# EAGLE library part W9812G6KH-5I (library sjg-pixl)
DRAM 128Mb SDR SDRAM x16, 200MHz, Ind temp Source: Datasheet <https://www.arrow.com/en/products/w9812g6kh-5i/winbond-electronics>
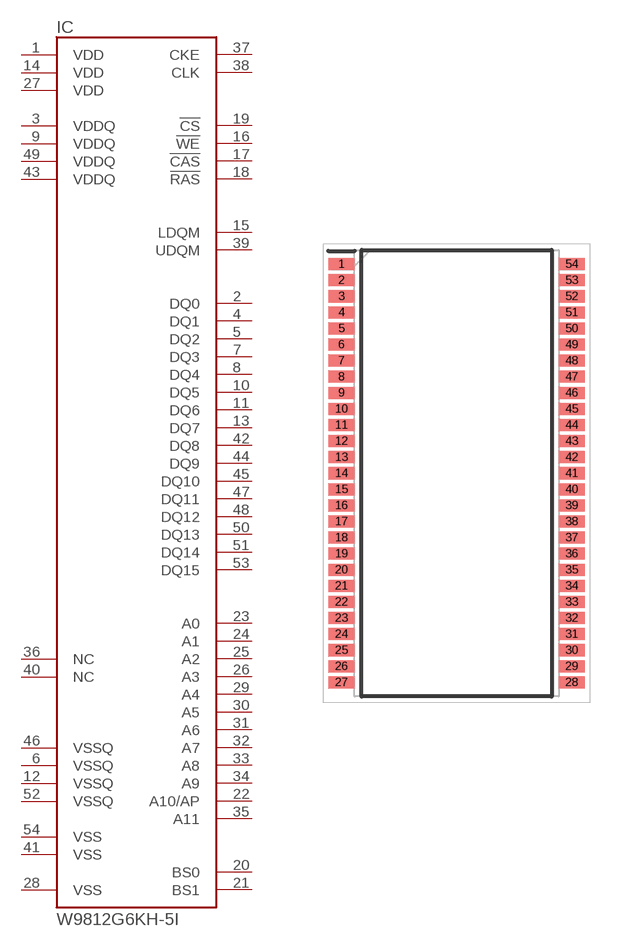
[diagram p18: symbol with the pads of SOP80P1176X120-54N; footprint SOP80P1176X120-54N]

Designator prefix IC

## W9812G6KH-5I (ARROW_PART_NUMBER: W9812G6KH-5I; ARROW_PRICE-STOCK: https://www.arrow.com/en/products/w9812g6kh-5i/winbond-electronics; DESCRIPTION: DRAM 128Mb SDR SDRAM x16, 200MHz, Ind temp; HEIGHT: 1.2mm; MANUFACTURER_NAME: Winbond; MANUFACTURER_PART_NUMBER: W9812G6KH-5I; MOUSER_PART_NUMBER: 454-W9812G6KH-5I; MOUSER_PRICE-STOCK: https://www.mouser.co.uk/ProductDetail/Winbond/W9812G6KH-5I?qs=qSfuJ%252Bfl%2Fd6msQf3E8e0Jg%3D%3D)  [SOP80P1176X120-54N]
1  VDD
2  DQ0
3  VDDQ
4  DQ1
5  DQ2
6  VSSQ
7  DQ3
8  DQ4
9  VDDQ
10  DQ5
11  DQ6
12  VSSQ
13  DQ7
14  VDD
15  LDQM
16  !WE
17  !CAS
18  !RAS
19  !CS
20  BS0
21  BS1
22  A10/AP
23  A0
24  A1
25  A2
26  A3
27  VDD
28  VSS
29  A4
30  A5
31  A6
32  A7
33  A8
34  A9
35  A11
36  NC  nc
37  CKE
38  CLK
39  UDQM
40  NC  nc
41  VSS
42  DQ8
43  VDDQ
44  DQ9
45  DQ10
46  VSSQ
47  DQ11
48  DQ12
49  VDDQ
50  DQ13
51  DQ14
52  VSSQ
53  DQ15
54  VSS

## Footprint SOP80P1176X120-54N (pad centres in mm)
54L TSOPII-400 MIL
smd 1.295 x 0.6: 1 -5.728,10.4; 2 -5.728,9.6; 3 -5.728,8.8; 4 -5.728,8; 5 -5.728,7.2; 6 -5.728,6.4; 7 -5.728,5.6; 8 -5.728,4.8; 9 -5.728,4; 10 -5.728,3.2; 11 -5.728,2.4; 12 -5.728,1.6; 13 -5.728,0.8; 14 -5.728,0; 15 -5.728,-0.8; 16 -5.728,-1.6; 17 -5.728,-2.4; 18 -5.728,-3.2; 19 -5.728,-4; 20 -5.728,-4.8; 21 -5.728,-5.6; 22 -5.728,-6.4; 23 -5.728,-7.2; 24 -5.728,-8; 25 -5.728,-8.8; 26 -5.728,-9.6; 27 -5.728,-10.4; 28 5.728,-10.4; 29 5.728,-9.6; 30 5.728,-8.8; 31 5.728,-8; 32 5.728,-7.2; 33 5.728,-6.4; 34 5.728,-5.6; 35 5.728,-4.8; 36 5.728,-4; 37 5.728,-3.2; 38 5.728,-2.4; 39 5.728,-1.6; 40 5.728,-0.8; 41 5.728,0; 42 5.728,0.8; 43 5.728,1.6; 44 5.728,2.4; 45 5.728,3.2; 46 5.728,4; 47 5.728,4.8; 48 5.728,5.6; 49 5.728,6.4; 50 5.728,7.2; 51 5.728,8; 52 5.728,8.8; 53 5.728,9.6; 54 5.728,10.4